# EAGLE library part LSF0102DCTR (library U96-SVM)
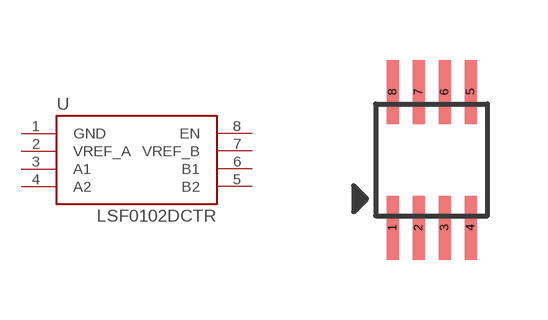
[diagram p2: symbol with the pads of TI-DCT8; footprint TI-DCT8]

Designator prefix U

## LSF0102DCTR  [TI-DCT8]
1  GND
2  VREF_A
3  A1
4  A2
5  B2
6  B1
7  VREF_B
8  EN

## Footprint TI-DCT8 (pad centres in mm)
smd 0.3 x 1.6: 1 -0.975,-1.7; 2 -0.325,-1.7; 3 0.325,-1.7; 4 0.975,-1.7; 5 0.975,1.7; 6 0.325,1.7; 7 -0.325,1.7; 8 -0.975,1.7